# EAGLE library part WANNENSTECKER-10 (library iceberg20)
Stiftleiste Stift, 10-polig Harting 09185106324 Datenblatt: Link <https://www.buerklin.com/medias/sys_master/root/h85/hc4/9017036046366/TDS-HARTING-Harting-EN-1571996484089.pdf> Zeichnung: Link <https://www.buerklin.com/medias/sys_master/root/hcd/h46/8866195374110/8866195374110.pdf>
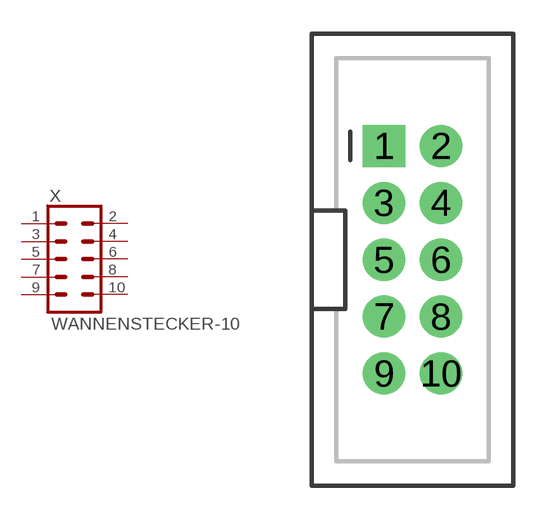
[diagram p15: symbol with the pads of 2X5-SHROUDED; footprint 2X5-SHROUDED]

Designator prefix X

## WANNENSTECKER-10 (BESTAND: ?; HERSTELLER: Harting; HERSTELLER-NR: 09 18 510 6324; SUPPLIER: Bürklin; SUPPLIER-NR: 53F4205)  [2X5-SHROUDED]
1  1  pas
2  2  pas
3  3  pas
4  4  pas
5  5  pas
6  6  pas
7  7  pas
8  8  pas
9  9  pas
10  10  pas

## Footprint 2X5-SHROUDED (pad centres in mm)
Plated Through Hole - 2x5 Shrouded Header Specifications: Pin count:10 Pin pitch:0.1" Datasheet referenced for footprint <https://www.sparkfun.com/datasheets/Prototyping/Shrouded-10pin.pdf> Example device(s): CONN_05x2
drill 1.016 pad 1.88 square: 1 -1.27,5.08
drill 1.016 pad 1.88: 2 1.27,5.08; 3 -1.27,2.54; 4 1.27,2.54; 5 -1.27,0; 6 1.27,0; 7 -1.27,-2.54; 8 1.27,-2.54; 9 -1.27,-5.08; 10 1.27,-5.08